# EAGLE library part TS882-P (library ts882)
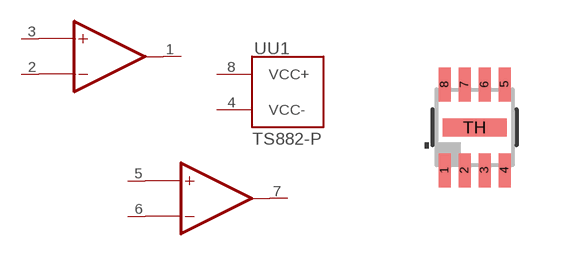
[diagram p1: symbol with the pads of UDFN8; footprint UDFN8]

Designator prefix U; gates OP1=OPAMP OP2=OPAMP U1=RAILS

## TS882-P  [UDFN8]
1  OP1:OUT1  out
2  OP1:IN1-  in
3  OP1:IN1+  in
4  U1:VCC-
5  OP2:IN1+  in
6  OP2:IN1-  in
7  OP2:OUT1  out
8  U1:VCC+

## Footprint UDFN8 (pad centres in mm)
uDFN 8 Source: http://datasheets.maxim-ic.com/en/ds/MAX4906-MAX4907F.pdf
smd 0.3 x 0.85: 1 -0.75,-1.075; 2 -0.25,-1.075; 3 0.25,-1.075; 4 0.75,-1.075; 5 0.75,1.075; 6 0.25,1.075; 7 -0.25,1.075; 8 -0.75,1.075
smd 1.6 x 0.45: TH 0,0